# Altium schematic symbol library 2pin_jumpers.SchLib: 1 symbol
Pins are listed as number, name and electrical type; pins without a type are passive.

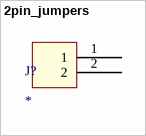
[diagram p0: symbol 2pin_jumpers]

## 2pin_jumpers
designator J?
footprint 2pin
footprint 2pinpwd
pins: 1, 2